# Altium footprint library PawPcbLib1.PcbLib: 5 footprints
Each footprint in its own frame and in the unit in brackets; x right, y up, seen from the top. Pads: shape width x height; smd on the part's side, far side on the other; paste and mask are expansions set on the pad; w line width, h text height; cw(c..) or ccw(c..) is an arc to the next point about the centre after c.
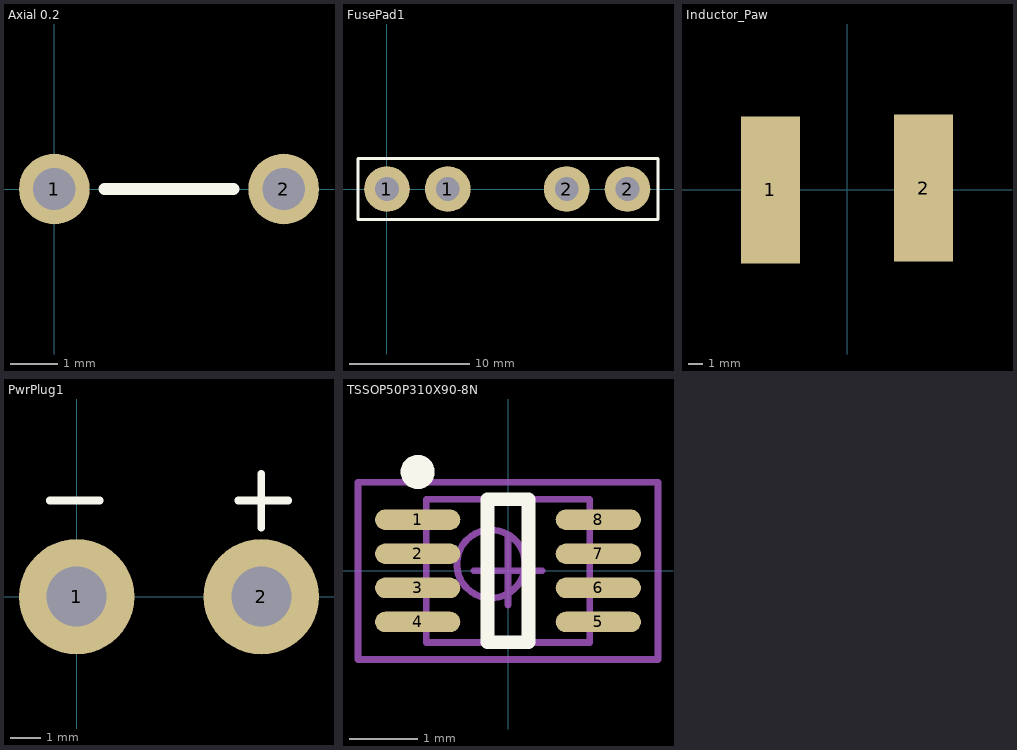
[diagram p0: the footprints below, top view; thin cyan lines are the x and y axes]

## Axial 0.2 [mm]
pads (2):
  round 1.5 hole 0.9: 1(0,0) 2(4.877,0)
Top Overlay:
  lines w0.254: 1.067,0 3.607,0 ; 1.27,0 3.81,0

## FusePad1 [mil]
pads (4):
  round 150 hole 78: 1(0,0) 1(200,0) 2(590,0) 2(790,0)
Top Overlay:
  lines w10: -95,-100 -95,100 890,100 890,-100 -95,-100

## Inductor_Paw [mm]
pads (2):
  rect 4x10 smd: 1(-5.207,0) 2(5.207,0.127)
3D body: height 4, standoff 0, extent -4.774,-4.364 4.191,4.618

## PwrPlug1 [mil]
pads (2):
  round 150 hole 78: 1(0,0) 2(240,0)
Top Overlay:
  lines w10: -35,125 30,125 ; 200,-50 200,0 ; 210,125 275,125 ; 240,90 240,160

## TSSOP50P310X90-8N [mm] "TSSOP, 8-Leads, Body 2.1x2.4mm (max), Pitch 0.50mm, IPC Medium Density"
height 0.9
pads (8):
  oval 1.25x0.3 smd: 1(-1.325,0.75) 2(-1.325,0.25) 3(-1.325,-0.25) 4(-1.325,-0.75) 5(1.325,-0.75) 6(1.325,-0.25) 7(1.325,0.25) 8(1.325,0.75)
Top Overlay:
  circle w0.25: c-1.325,1.45 r0.125
  lines w0.2: -0.3,-1.05 -0.3,1.05 0.3,1.05 0.3,-1.05 -0.3,-1.05
Mechanical 13:
  circle w0.1: c-0.25,0.1 r0.5
  lines w0.1: -1.2,-1.05 -1.2,1.05 1.2,1.05 1.2,-1.05 -1.2,-1.05
Mechanical 15:
  lines w0.1: -0.5,0 0.5,0 ; 0,-0.5 0,0.5 ; -2.2,-1.3 -2.2,1.3 2.2,1.3 2.2,-1.3 -2.2,-1.3
3D body: height 0.9, standoff 0.1, extent -1.2,-1.05 1.2,1.05